# Altium footprint library TerminalBlock_Degson.PcbLib: 21 footprints (part 2 of 2)
Each footprint in its own frame and in the unit in brackets; x right, y up, seen from the top. Pads: shape width x height; smd on the part's side, far side on the other; paste and mask are expansions set on the pad; w line width, h text height; cw(c..) or ccw(c..) is an arc to the next point about the centre after c.
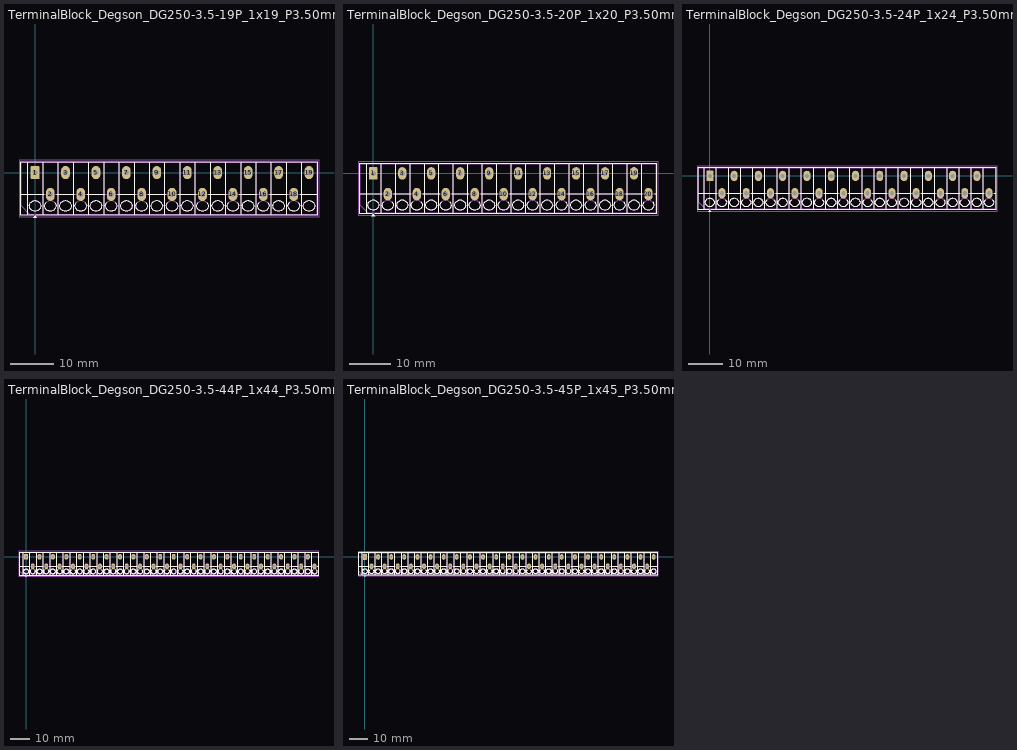
[diagram p1: the footprints below, top view; thin cyan lines are the x and y axes]

## TerminalBlock_Degson_DG250-3.5-19P_1x19_P3.50mm_45Degree [mm]
pads (19):
  rrect12% 2x3 hole 1.2: 1(0,0)
  rrect100% 2x3 hole 1.2: 2(3.5,-5) 3(7,0) 4(10.5,-5) 5(14,0) 6(17.5,-5) 7(21,0) 8(24.5,-5) 9(28,0) 10(31.5,-5) 11(35,0) 12(38.5,-5) 13(42,0) 14(45.5,-5) 15(49,0) 16(52.5,-5) 17(56,0) 18(59.5,-5) 19(63,0)
F.SilkS:
  region: 0.44,-10.38 -0.44,-10.38 0,-9.77
  lines w0.254: -3.32,-4.95 2.02,-4.95 ; -1.75,-9.77 -1.75,2.47 ; -0.3,-9.77 -3.32,-9.77 -3.32,2.47 64.92,2.47 64.92,-9.77 0.3,-9.77 ; 1.75,-9.77 1.75,2.47 ; 2.405,-6.98 ccw(c3.496,-7.987) 2.05,-7.65 ccw(c3.5,-7.311) 4.95,-7.65 ccw(c3.504,-7.987) 4.595,-6.98 ; 4.98,-4.95 9.02,-4.95 ; 5.25,-9.77 5.25,2.47 ; 8.75,-9.77 8.75,2.47 ; 9.405,-6.98 ccw(c10.496,-7.987) 9.05,-7.65 ccw(c10.5,-7.311) 11.95,-7.65 ccw(c10.504,-7.987) 11.595,-6.98 ; 11.98,-4.95 16.02,-4.95 ; 12.25,-9.77 12.25,2.47 ; 15.75,-9.77 15.75,2.47 ; 16.405,-6.98 ccw(c17.496,-7.987) 16.05,-7.65 ccw(c17.5,-7.311) 18.95,-7.65 ccw(c17.504,-7.987) 18.595,-6.98 ; 18.98,-4.95 23.02,-4.95 ; 19.25,-9.77 19.25,2.47 ; 22.75,-9.77 22.75,2.47 ; 23.405,-6.98 ccw(c24.496,-7.987) 23.05,-7.65 ccw(c24.5,-7.311) 25.95,-7.65 ccw(c24.504,-7.987) 25.595,-6.98 ; 25.98,-4.95 30.02,-4.95 ; 26.25,-9.77 26.25,2.47 ; 29.75,-9.77 29.75,2.47 ; 30.405,-6.98 ccw(c31.496,-7.987) 30.05,-7.65 ccw(c31.5,-7.311) 32.95,-7.65 ccw(c31.504,-7.987) 32.595,-6.98 ; 32.98,-4.95 37.02,-4.95 ; 33.25,-9.77 33.25,2.47 ; 36.75,-9.77 36.75,2.47 ; 37.405,-6.98 ccw(c38.496,-7.987) 37.05,-7.65 ccw(c38.5,-7.311) 39.95,-7.65 ccw(c38.504,-7.987) 39.595,-6.98 ; 39.98,-4.95 44.02,-4.95 ; 40.25,-9.77 40.25,2.47 ; 43.75,-9.77 43.75,2.47 ; 44.405,-6.98 ccw(c45.496,-7.987) 44.05,-7.65 ccw(c45.5,-7.311) 46.95,-7.65 ccw(c45.504,-7.987) 46.595,-6.98 ; 46.98,-4.95 51.02,-4.95 ; 47.25,-9.77 47.25,2.47 ; 50.75,-9.77 50.75,2.47 ; 51.405,-6.98 ccw(c52.496,-7.987) 51.05,-7.65 ccw(c52.5,-7.311) 53.95,-7.65 ccw(c52.504,-7.987) 53.595,-6.98 ; 53.98,-4.95 58.02,-4.95 ; 54.25,-9.77 54.25,2.47 ; 57.75,-9.77 57.75,2.47 ; 58.405,-6.98 ccw(c59.496,-7.987) 58.05,-7.65 ccw(c59.5,-7.311) 60.95,-7.65 ccw(c59.504,-7.987) 60.595,-6.98 ; 60.98,-4.95 64.92,-4.95 ; 61.25,-9.77 61.25,2.47 ; -1.45,-7.65 cw(c0,-7.989) 1.45,-7.65 cw(c0,-7.311) -1.45,-7.65 ; 5.55,-7.65 cw(c7,-7.989) 8.45,-7.65 cw(c7,-7.311) 5.55,-7.65 ; 12.55,-7.65 cw(c14,-7.989) 15.45,-7.65 cw(c14,-7.311) 12.55,-7.65 ; 19.55,-7.65 cw(c21,-7.989) 22.45,-7.65 cw(c21,-7.311) 19.55,-7.65 ; 26.55,-7.65 cw(c28,-7.989) 29.45,-7.65 cw(c28,-7.311) 26.55,-7.65 ; 33.55,-7.65 cw(c35,-7.989) 36.45,-7.65 cw(c35,-7.311) 33.55,-7.65 ; 40.55,-7.65 cw(c42,-7.989) 43.45,-7.65 cw(c42,-7.311) 40.55,-7.65 ; 47.55,-7.65 cw(c49,-7.989) 50.45,-7.65 cw(c49,-7.311) 47.55,-7.65 ; 54.55,-7.65 cw(c56,-7.989) 57.45,-7.65 cw(c56,-7.311) 54.55,-7.65 ; 61.55,-7.65 cw(c63,-7.989) 64.45,-7.65 cw(c63,-7.311) 61.55,-7.65
F.Fab:
  lines w0.254: -3.2,-4.95 64.8,-4.95 ; -1.75,-9.65 -1.75,2.35 ; 1.75,-9.65 1.75,2.35 ; 5.25,-9.65 5.25,2.35 ; 8.75,-9.65 8.75,2.35 ; 12.25,-9.65 12.25,2.35 ; 15.75,-9.65 15.75,2.35 ; 19.25,-9.65 19.25,2.35 ; 22.75,-9.65 22.75,2.35 ; 26.25,-9.65 26.25,2.35 ; 29.75,-9.65 29.75,2.35 ; 33.25,-9.65 33.25,2.35 ; 36.75,-9.65 36.75,2.35 ; 40.25,-9.65 40.25,2.35 ; 43.75,-9.65 43.75,2.35 ; 47.25,-9.65 47.25,2.35 ; 50.75,-9.65 50.75,2.35 ; 54.25,-9.65 54.25,2.35 ; 57.75,-9.65 57.75,2.35 ; 61.25,-9.65 61.25,2.35 ; -3.2,-7.65 -3.2,2.35 64.8,2.35 64.8,-9.65 -1.2,-9.65 -3.2,-7.65 ; -1.45,-7.65 cw(c0,-7.989) 1.45,-7.65 cw(c0,-7.311) -1.45,-7.65 ; 2.05,-7.65 cw(c3.5,-7.989) 4.95,-7.65 cw(c3.5,-7.311) 2.05,-7.65 ; 5.55,-7.65 cw(c7,-7.989) 8.45,-7.65 cw(c7,-7.311) 5.55,-7.65 ; 9.05,-7.65 cw(c10.5,-7.989) 11.95,-7.65 cw(c10.5,-7.311) 9.05,-7.65 ; 12.55,-7.65 cw(c14,-7.989) 15.45,-7.65 cw(c14,-7.311) 12.55,-7.65 ; 16.05,-7.65 cw(c17.5,-7.989) 18.95,-7.65 cw(c17.5,-7.311) 16.05,-7.65 ; 19.55,-7.65 cw(c21,-7.989) 22.45,-7.65 cw(c21,-7.311) 19.55,-7.65 ; 23.05,-7.65 cw(c24.5,-7.989) 25.95,-7.65 cw(c24.5,-7.311) 23.05,-7.65 ; 26.55,-7.65 cw(c28,-7.989) 29.45,-7.65 cw(c28,-7.311) 26.55,-7.65 ; 30.05,-7.65 cw(c31.5,-7.989) 32.95,-7.65 cw(c31.5,-7.311) 30.05,-7.65 ; 33.55,-7.65 cw(c35,-7.989) 36.45,-7.65 cw(c35,-7.311) 33.55,-7.65 ; 37.05,-7.65 cw(c38.5,-7.989) 39.95,-7.65 cw(c38.5,-7.311) 37.05,-7.65 ; 40.55,-7.65 cw(c42,-7.989) 43.45,-7.65 cw(c42,-7.311) 40.55,-7.65 ; 44.05,-7.65 cw(c45.5,-7.989) 46.95,-7.65 cw(c45.5,-7.311) 44.05,-7.65 ; 47.55,-7.65 cw(c49,-7.989) 50.45,-7.65 cw(c49,-7.311) 47.55,-7.65 ; 51.05,-7.65 cw(c52.5,-7.989) 53.95,-7.65 cw(c52.5,-7.311) 51.05,-7.65 ; 54.55,-7.65 cw(c56,-7.989) 57.45,-7.65 cw(c56,-7.311) 54.55,-7.65 ; 58.05,-7.65 cw(c59.5,-7.989) 60.95,-7.65 cw(c59.5,-7.311) 58.05,-7.65 ; 61.55,-7.65 cw(c63,-7.989) 64.45,-7.65 cw(c63,-7.311) 61.55,-7.65
  text "'.Designator'" at 26.753,-3.49 h1
F.CrtYd:
  lines w0.254: -3.7,-10.15 -3.7,2.85 65.3,2.85 65.3,-10.15 -3.7,-10.15

## TerminalBlock_Degson_DG250-3.5-20P_1x20_P3.50mm_45Degree [mm]
pads (20):
  rrect12% 2x3 hole 1.2: 1(0,0)
  rrect100% 2x3 hole 1.2: 2(3.5,-5) 3(7,0) 4(10.5,-5) 5(14,0) 6(17.5,-5) 7(21,0) 8(24.5,-5) 9(28,0) 10(31.5,-5) 11(35,0) 12(38.5,-5) 13(42,0) 14(45.5,-5) 15(49,0) 16(52.5,-5) 17(56,0) 18(59.5,-5) 19(63,0) 20(66.5,-5)
F.SilkS:
  region: 0.44,-10.38 -0.44,-10.38 0,-9.77
  lines w0.254: -3.32,-4.95 2.02,-4.95 ; -1.75,-9.77 -1.75,2.47 ; -0.3,-9.77 -3.32,-9.77 -3.32,2.47 68.42,2.47 68.42,-9.77 0.3,-9.77 ; 1.75,-9.77 1.75,2.47 ; 2.405,-6.98 ccw(c3.496,-7.987) 2.05,-7.65 ccw(c3.5,-7.311) 4.95,-7.65 ccw(c3.504,-7.987) 4.595,-6.98 ; 4.98,-4.95 9.02,-4.95 ; 5.25,-9.77 5.25,2.47 ; 8.75,-9.77 8.75,2.47 ; 9.405,-6.98 ccw(c10.496,-7.987) 9.05,-7.65 ccw(c10.5,-7.311) 11.95,-7.65 ccw(c10.504,-7.987) 11.595,-6.98 ; 11.98,-4.95 16.02,-4.95 ; 12.25,-9.77 12.25,2.47 ; 15.75,-9.77 15.75,2.47 ; 16.405,-6.98 ccw(c17.496,-7.987) 16.05,-7.65 ccw(c17.5,-7.311) 18.95,-7.65 ccw(c17.504,-7.987) 18.595,-6.98 ; 18.98,-4.95 23.02,-4.95 ; 19.25,-9.77 19.25,2.47 ; 22.75,-9.77 22.75,2.47 ; 23.405,-6.98 ccw(c24.496,-7.987) 23.05,-7.65 ccw(c24.5,-7.311) 25.95,-7.65 ccw(c24.504,-7.987) 25.595,-6.98 ; 25.98,-4.95 30.02,-4.95 ; 26.25,-9.77 26.25,2.47 ; 29.75,-9.77 29.75,2.47 ; 30.405,-6.98 ccw(c31.496,-7.987) 30.05,-7.65 ccw(c31.5,-7.311) 32.95,-7.65 ccw(c31.504,-7.987) 32.595,-6.98 ; 32.98,-4.95 37.02,-4.95 ; 33.25,-9.77 33.25,2.47 ; 36.75,-9.77 36.75,2.47 ; 37.405,-6.98 ccw(c38.496,-7.987) 37.05,-7.65 ccw(c38.5,-7.311) 39.95,-7.65 ccw(c38.504,-7.987) 39.595,-6.98 ; 39.98,-4.95 44.02,-4.95 ; 40.25,-9.77 40.25,2.47 ; 43.75,-9.77 43.75,2.47 ; 44.405,-6.98 ccw(c45.496,-7.987) 44.05,-7.65 ccw(c45.5,-7.311) 46.95,-7.65 ccw(c45.504,-7.987) 46.595,-6.98 ; 46.98,-4.95 51.02,-4.95 ; 47.25,-9.77 47.25,2.47 ; 50.75,-9.77 50.75,2.47 ; 51.405,-6.98 ccw(c52.496,-7.987) 51.05,-7.65 ccw(c52.5,-7.311) 53.95,-7.65 ccw(c52.504,-7.987) 53.595,-6.98 ; 53.98,-4.95 58.02,-4.95 ; 54.25,-9.77 54.25,2.47 ; 57.75,-9.77 57.75,2.47 ; 58.405,-6.98 ccw(c59.496,-7.987) 58.05,-7.65 ccw(c59.5,-7.311) 60.95,-7.65 ccw(c59.504,-7.987) 60.595,-6.98 ; 60.98,-4.95 65.02,-4.95 ; 61.25,-9.77 61.25,2.47 ; 64.75,-9.77 64.75,2.47 ; 65.405,-6.98 ccw(c66.496,-7.987) 65.05,-7.65 ccw(c66.5,-7.311) 67.95,-7.65 ccw(c66.504,-7.987) 67.595,-6.98 ; 67.98,-4.95 68.42,-4.95 ; -1.45,-7.65 cw(c0,-7.989) 1.45,-7.65 cw(c0,-7.311) -1.45,-7.65 ; 5.55,-7.65 cw(c7,-7.989) 8.45,-7.65 cw(c7,-7.311) 5.55,-7.65 ; 12.55,-7.65 cw(c14,-7.989) 15.45,-7.65 cw(c14,-7.311) 12.55,-7.65 ; 19.55,-7.65 cw(c21,-7.989) 22.45,-7.65 cw(c21,-7.311) 19.55,-7.65 ; 26.55,-7.65 cw(c28,-7.989) 29.45,-7.65 cw(c28,-7.311) 26.55,-7.65 ; 33.55,-7.65 cw(c35,-7.989) 36.45,-7.65 cw(c35,-7.311) 33.55,-7.65 ; 40.55,-7.65 cw(c42,-7.989) 43.45,-7.65 cw(c42,-7.311) 40.55,-7.65 ; 47.55,-7.65 cw(c49,-7.989) 50.45,-7.65 cw(c49,-7.311) 47.55,-7.65 ; 54.55,-7.65 cw(c56,-7.989) 57.45,-7.65 cw(c56,-7.311) 54.55,-7.65 ; 61.55,-7.65 cw(c63,-7.989) 64.45,-7.65 cw(c63,-7.311) 61.55,-7.65
F.Fab:
  lines w0.254: -3.2,-4.95 68.3,-4.95 ; -1.75,-9.65 -1.75,2.35 ; 1.75,-9.65 1.75,2.35 ; 5.25,-9.65 5.25,2.35 ; 8.75,-9.65 8.75,2.35 ; 12.25,-9.65 12.25,2.35 ; 15.75,-9.65 15.75,2.35 ; 19.25,-9.65 19.25,2.35 ; 22.75,-9.65 22.75,2.35 ; 26.25,-9.65 26.25,2.35 ; 29.75,-9.65 29.75,2.35 ; 33.25,-9.65 33.25,2.35 ; 36.75,-9.65 36.75,2.35 ; 40.25,-9.65 40.25,2.35 ; 43.75,-9.65 43.75,2.35 ; 47.25,-9.65 47.25,2.35 ; 50.75,-9.65 50.75,2.35 ; 54.25,-9.65 54.25,2.35 ; 57.75,-9.65 57.75,2.35 ; 61.25,-9.65 61.25,2.35 ; 64.75,-9.65 64.75,2.35 ; -3.2,-7.65 -3.2,2.35 68.3,2.35 68.3,-9.65 -1.2,-9.65 -3.2,-7.65 ; -1.45,-7.65 cw(c0,-7.989) 1.45,-7.65 cw(c0,-7.311) -1.45,-7.65 ; 2.05,-7.65 cw(c3.5,-7.989) 4.95,-7.65 cw(c3.5,-7.311) 2.05,-7.65 ; 5.55,-7.65 cw(c7,-7.989) 8.45,-7.65 cw(c7,-7.311) 5.55,-7.65 ; 9.05,-7.65 cw(c10.5,-7.989) 11.95,-7.65 cw(c10.5,-7.311) 9.05,-7.65 ; 12.55,-7.65 cw(c14,-7.989) 15.45,-7.65 cw(c14,-7.311) 12.55,-7.65 ; 16.05,-7.65 cw(c17.5,-7.989) 18.95,-7.65 cw(c17.5,-7.311) 16.05,-7.65 ; 19.55,-7.65 cw(c21,-7.989) 22.45,-7.65 cw(c21,-7.311) 19.55,-7.65 ; 23.05,-7.65 cw(c24.5,-7.989) 25.95,-7.65 cw(c24.5,-7.311) 23.05,-7.65 ; 26.55,-7.65 cw(c28,-7.989) 29.45,-7.65 cw(c28,-7.311) 26.55,-7.65 ; 30.05,-7.65 cw(c31.5,-7.989) 32.95,-7.65 cw(c31.5,-7.311) 30.05,-7.65 ; 33.55,-7.65 cw(c35,-7.989) 36.45,-7.65 cw(c35,-7.311) 33.55,-7.65 ; 37.05,-7.65 cw(c38.5,-7.989) 39.95,-7.65 cw(c38.5,-7.311) 37.05,-7.65 ; 40.55,-7.65 cw(c42,-7.989) 43.45,-7.65 cw(c42,-7.311) 40.55,-7.65 ; 44.05,-7.65 cw(c45.5,-7.989) 46.95,-7.65 cw(c45.5,-7.311) 44.05,-7.65 ; 47.55,-7.65 cw(c49,-7.989) 50.45,-7.65 cw(c49,-7.311) 47.55,-7.65 ; 51.05,-7.65 cw(c52.5,-7.989) 53.95,-7.65 cw(c52.5,-7.311) 51.05,-7.65 ; 54.55,-7.65 cw(c56,-7.989) 57.45,-7.65 cw(c56,-7.311) 54.55,-7.65 ; 58.05,-7.65 cw(c59.5,-7.989) 60.95,-7.65 cw(c59.5,-7.311) 58.05,-7.65 ; 61.55,-7.65 cw(c63,-7.989) 64.45,-7.65 cw(c63,-7.311) 61.55,-7.65 ; 65.05,-7.65 cw(c66.5,-7.989) 67.95,-7.65 cw(c66.5,-7.311) 65.05,-7.65
  text "'.Designator'" at 28.503,-3.49 h1
F.CrtYd:
  lines w0.254: -3.7,-10.15 -3.7,2.85 68.8,2.85 68.8,-10.15 -3.7,-10.15

## TerminalBlock_Degson_DG250-3.5-24P_1x24_P3.50mm_45Degree [mm]
pads (24):
  rrect12% 2x3 hole 1.2: 1(0,0)
  rrect100% 2x3 hole 1.2: 2(3.5,-5) 3(7,0) 4(10.5,-5) 5(14,0) 6(17.5,-5) 7(21,0) 8(24.5,-5) 9(28,0) 10(31.5,-5) 11(35,0) 12(38.5,-5) 13(42,0) 14(45.5,-5) 15(49,0) 16(52.5,-5) 17(56,0) 18(59.5,-5) 19(63,0) 20(66.5,-5) 21(70,0) 22(73.5,-5) 23(77,0) 24(80.5,-5)
F.SilkS:
  region: 0.44,-10.38 -0.44,-10.38 0,-9.77
  lines w0.254: -3.32,-4.95 2.02,-4.95 ; -1.75,-9.77 -1.75,2.47 ; -0.3,-9.77 -3.32,-9.77 -3.32,2.47 82.42,2.47 82.42,-9.77 0.3,-9.77 ; 1.75,-9.77 1.75,2.47 ; 2.405,-6.98 ccw(c3.496,-7.987) 2.05,-7.65 ccw(c3.5,-7.311) 4.95,-7.65 ccw(c3.504,-7.987) 4.595,-6.98 ; 4.98,-4.95 9.02,-4.95 ; 5.25,-9.77 5.25,2.47 ; 8.75,-9.77 8.75,2.47 ; 9.405,-6.98 ccw(c10.496,-7.987) 9.05,-7.65 ccw(c10.5,-7.311) 11.95,-7.65 ccw(c10.504,-7.987) 11.595,-6.98 ; 11.98,-4.95 16.02,-4.95 ; 12.25,-9.77 12.25,2.47 ; 15.75,-9.77 15.75,2.47 ; 16.405,-6.98 ccw(c17.496,-7.987) 16.05,-7.65 ccw(c17.5,-7.311) 18.95,-7.65 ccw(c17.504,-7.987) 18.595,-6.98 ; 18.98,-4.95 23.02,-4.95 ; 19.25,-9.77 19.25,2.47 ; 22.75,-9.77 22.75,2.47 ; 23.405,-6.98 ccw(c24.496,-7.987) 23.05,-7.65 ccw(c24.5,-7.311) 25.95,-7.65 ccw(c24.504,-7.987) 25.595,-6.98 ; 25.98,-4.95 30.02,-4.95 ; 26.25,-9.77 26.25,2.47 ; 29.75,-9.77 29.75,2.47 ; 30.405,-6.98 ccw(c31.496,-7.987) 30.05,-7.65 ccw(c31.5,-7.311) 32.95,-7.65 ccw(c31.504,-7.987) 32.595,-6.98 ; 32.98,-4.95 37.02,-4.95 ; 33.25,-9.77 33.25,2.47 ; 36.75,-9.77 36.75,2.47 ; 37.405,-6.98 ccw(c38.496,-7.987) 37.05,-7.65 ccw(c38.5,-7.311) 39.95,-7.65 ccw(c38.504,-7.987) 39.595,-6.98 ; 39.98,-4.95 44.02,-4.95 ; 40.25,-9.77 40.25,2.47 ; 43.75,-9.77 43.75,2.47 ; 44.405,-6.98 ccw(c45.496,-7.987) 44.05,-7.65 ccw(c45.5,-7.311) 46.95,-7.65 ccw(c45.504,-7.987) 46.595,-6.98 ; 46.98,-4.95 51.02,-4.95 ; 47.25,-9.77 47.25,2.47 ; 50.75,-9.77 50.75,2.47 ; 51.405,-6.98 ccw(c52.496,-7.987) 51.05,-7.65 ccw(c52.5,-7.311) 53.95,-7.65 ccw(c52.504,-7.987) 53.595,-6.98 ; 53.98,-4.95 58.02,-4.95 ; 54.25,-9.77 54.25,2.47 ; 57.75,-9.77 57.75,2.47 ; 58.405,-6.98 ccw(c59.496,-7.987) 58.05,-7.65 ccw(c59.5,-7.311) 60.95,-7.65 ccw(c59.504,-7.987) 60.595,-6.98 ; 60.98,-4.95 65.02,-4.95 ; 61.25,-9.77 61.25,2.47 ; 64.75,-9.77 64.75,2.47 ; 65.405,-6.98 ccw(c66.496,-7.987) 65.05,-7.65 ccw(c66.5,-7.311) 67.95,-7.65 ccw(c66.504,-7.987) 67.595,-6.98 ; 67.98,-4.95 72.02,-4.95 ; 68.25,-9.77 68.25,2.47 ; 71.75,-9.77 71.75,2.47 ; 72.405,-6.98 ccw(c73.496,-7.987) 72.05,-7.65 ccw(c73.5,-7.311) 74.95,-7.65 ccw(c73.504,-7.987) 74.595,-6.98 ; 74.98,-4.95 79.02,-4.95 ; 75.25,-9.77 75.25,2.47 ; 78.75,-9.77 78.75,2.47 ; 79.405,-6.98 ccw(c80.496,-7.987) 79.05,-7.65 ccw(c80.5,-7.311) 81.95,-7.65 ccw(c80.504,-7.987) 81.595,-6.98 ; 81.98,-4.95 82.42,-4.95 ; -1.45,-7.65 cw(c0,-7.989) 1.45,-7.65 cw(c0,-7.311) -1.45,-7.65 ; 5.55,-7.65 cw(c7,-7.989) 8.45,-7.65 cw(c7,-7.311) 5.55,-7.65 ; 12.55,-7.65 cw(c14,-7.989) 15.45,-7.65 cw(c14,-7.311) 12.55,-7.65 ; 19.55,-7.65 cw(c21,-7.989) 22.45,-7.65 cw(c21,-7.311) 19.55,-7.65 ; 26.55,-7.65 cw(c28,-7.989) 29.45,-7.65 cw(c28,-7.311) 26.55,-7.65 ; 33.55,-7.65 cw(c35,-7.989) 36.45,-7.65 cw(c35,-7.311) 33.55,-7.65 ; 40.55,-7.65 cw(c42,-7.989) 43.45,-7.65 cw(c42,-7.311) 40.55,-7.65 ; 47.55,-7.65 cw(c49,-7.989) 50.45,-7.65 cw(c49,-7.311) 47.55,-7.65 ; 54.55,-7.65 cw(c56,-7.989) 57.45,-7.65 cw(c56,-7.311) 54.55,-7.65 ; 61.55,-7.65 cw(c63,-7.989) 64.45,-7.65 cw(c63,-7.311) 61.55,-7.65 ; 68.55,-7.65 cw(c70,-7.989) 71.45,-7.65 cw(c70,-7.311) 68.55,-7.65 ; 75.55,-7.65 cw(c77,-7.989) 78.45,-7.65 cw(c77,-7.311) 75.55,-7.65
F.Fab:
  lines w0.254: -3.2,-4.95 82.3,-4.95 ; -1.75,-9.65 -1.75,2.35 ; 1.75,-9.65 1.75,2.35 ; 5.25,-9.65 5.25,2.35 ; 8.75,-9.65 8.75,2.35 ; 12.25,-9.65 12.25,2.35 ; 15.75,-9.65 15.75,2.35 ; 19.25,-9.65 19.25,2.35 ; 22.75,-9.65 22.75,2.35 ; 26.25,-9.65 26.25,2.35 ; 29.75,-9.65 29.75,2.35 ; 33.25,-9.65 33.25,2.35 ; 36.75,-9.65 36.75,2.35 ; 40.25,-9.65 40.25,2.35 ; 43.75,-9.65 43.75,2.35 ; 47.25,-9.65 47.25,2.35 ; 50.75,-9.65 50.75,2.35 ; 54.25,-9.65 54.25,2.35 ; 57.75,-9.65 57.75,2.35 ; 61.25,-9.65 61.25,2.35 ; 64.75,-9.65 64.75,2.35 ; 68.25,-9.65 68.25,2.35 ; 71.75,-9.65 71.75,2.35 ; 75.25,-9.65 75.25,2.35 ; 78.75,-9.65 78.75,2.35 ; -3.2,-7.65 -3.2,2.35 82.3,2.35 82.3,-9.65 -1.2,-9.65 -3.2,-7.65 ; -1.45,-7.65 cw(c0,-7.989) 1.45,-7.65 cw(c0,-7.311) -1.45,-7.65 ; 2.05,-7.65 cw(c3.5,-7.989) 4.95,-7.65 cw(c3.5,-7.311) 2.05,-7.65 ; 5.55,-7.65 cw(c7,-7.989) 8.45,-7.65 cw(c7,-7.311) 5.55,-7.65 ; 9.05,-7.65 cw(c10.5,-7.989) 11.95,-7.65 cw(c10.5,-7.311) 9.05,-7.65 ; 12.55,-7.65 cw(c14,-7.989) 15.45,-7.65 cw(c14,-7.311) 12.55,-7.65 ; 16.05,-7.65 cw(c17.5,-7.989) 18.95,-7.65 cw(c17.5,-7.311) 16.05,-7.65 ; 19.55,-7.65 cw(c21,-7.989) 22.45,-7.65 cw(c21,-7.311) 19.55,-7.65 ; 23.05,-7.65 cw(c24.5,-7.989) 25.95,-7.65 cw(c24.5,-7.311) 23.05,-7.65 ; 26.55,-7.65 cw(c28,-7.989) 29.45,-7.65 cw(c28,-7.311) 26.55,-7.65 ; 30.05,-7.65 cw(c31.5,-7.989) 32.95,-7.65 cw(c31.5,-7.311) 30.05,-7.65 ; 33.55,-7.65 cw(c35,-7.989) 36.45,-7.65 cw(c35,-7.311) 33.55,-7.65 ; 37.05,-7.65 cw(c38.5,-7.989) 39.95,-7.65 cw(c38.5,-7.311) 37.05,-7.65 ; 40.55,-7.65 cw(c42,-7.989) 43.45,-7.65 cw(c42,-7.311) 40.55,-7.65 ; 44.05,-7.65 cw(c45.5,-7.989) 46.95,-7.65 cw(c45.5,-7.311) 44.05,-7.65 ; 47.55,-7.65 cw(c49,-7.989) 50.45,-7.65 cw(c49,-7.311) 47.55,-7.65 ; 51.05,-7.65 cw(c52.5,-7.989) 53.95,-7.65 cw(c52.5,-7.311) 51.05,-7.65 ; 54.55,-7.65 cw(c56,-7.989) 57.45,-7.65 cw(c56,-7.311) 54.55,-7.65 ; 58.05,-7.65 cw(c59.5,-7.989) 60.95,-7.65 cw(c59.5,-7.311) 58.05,-7.65 ; 61.55,-7.65 cw(c63,-7.989) 64.45,-7.65 cw(c63,-7.311) 61.55,-7.65 ; 65.05,-7.65 cw(c66.5,-7.989) 67.95,-7.65 cw(c66.5,-7.311) 65.05,-7.65 ; 68.55,-7.65 cw(c70,-7.989) 71.45,-7.65 cw(c70,-7.311) 68.55,-7.65 ; 72.05,-7.65 cw(c73.5,-7.989) 74.95,-7.65 cw(c73.5,-7.311) 72.05,-7.65 ; 75.55,-7.65 cw(c77,-7.989) 78.45,-7.65 cw(c77,-7.311) 75.55,-7.65 ; 79.05,-7.65 cw(c80.5,-7.989) 81.95,-7.65 cw(c80.5,-7.311) 79.05,-7.65
  text "'.Designator'" at 35.503,-3.49 h1
F.CrtYd:
  lines w0.254: -3.7,-10.15 -3.7,2.85 82.8,2.85 82.8,-10.15 -3.7,-10.15

## TerminalBlock_Degson_DG250-3.5-44P_1x44_P3.50mm_45Degree [mm]
pads (44):
  rrect12% 2x3 hole 1.2: 1(0,0)
  rrect100% 2x3 hole 1.2: 2(3.5,-5) 3(7,0) 4(10.5,-5) 5(14,0) 6(17.5,-5) 7(21,0) 8(24.5,-5) 9(28,0) 10(31.5,-5) 11(35,0) 12(38.5,-5) 13(42,0) 14(45.5,-5) 15(49,0) 16(52.5,-5) 17(56,0) 18(59.5,-5) 19(63,0) 20(66.5,-5) 21(70,0) 22(73.5,-5) 23(77,0) 24(80.5,-5) 25(84,0) 26(87.5,-5) 27(91,0) 28(94.5,-5) 29(98,0) 30(101.5,-5) 31(105,0) 32(108.5,-5) 33(112,0) 34(115.5,-5) 35(119,0) 36(122.5,-5) 37(126,0) 38(129.5,-5) 39(133,0) 40(136.5,-5) 41(140,0) 42(143.5,-5) 43(147,0) 44(150.5,-5)
F.SilkS:
  drawing of 183 lines, arcs and shapes, not listed
F.Fab:
  lines w0.254: -3.2,-4.95 152.3,-4.95 ; -1.75,-9.65 -1.75,2.35 ; 1.75,-9.65 1.75,2.35 ; 5.25,-9.65 5.25,2.35 ; 8.75,-9.65 8.75,2.35 ; 12.25,-9.65 12.25,2.35 ; 15.75,-9.65 15.75,2.35 ; 19.25,-9.65 19.25,2.35 ; 22.75,-9.65 22.75,2.35 ; 26.25,-9.65 26.25,2.35 ; 29.75,-9.65 29.75,2.35 ; 33.25,-9.65 33.25,2.35 ; 36.75,-9.65 36.75,2.35 ; 40.25,-9.65 40.25,2.35 ; 43.75,-9.65 43.75,2.35 ; 47.25,-9.65 47.25,2.35 ; 50.75,-9.65 50.75,2.35 ; 54.25,-9.65 54.25,2.35 ; 57.75,-9.65 57.75,2.35 ; 61.25,-9.65 61.25,2.35 ; 64.75,-9.65 64.75,2.35 ; 68.25,-9.65 68.25,2.35 ; 71.75,-9.65 71.75,2.35 ; 75.25,-9.65 75.25,2.35 ; 78.75,-9.65 78.75,2.35 ; 82.25,-9.65 82.25,2.35 ; 85.75,-9.65 85.75,2.35 ; 89.25,-9.65 89.25,2.35 ; 92.75,-9.65 92.75,2.35 ; 96.25,-9.65 96.25,2.35 ; 99.75,-9.65 99.75,2.35 ; 103.25,-9.65 103.25,2.35 ; 106.75,-9.65 106.75,2.35 ; 110.25,-9.65 110.25,2.35 ; 113.75,-9.65 113.75,2.35 ; 117.25,-9.65 117.25,2.35 ; 120.75,-9.65 120.75,2.35 ; 124.25,-9.65 124.25,2.35 ; 127.75,-9.65 127.75,2.35 ; 131.25,-9.65 131.25,2.35 ; 134.75,-9.65 134.75,2.35 ; 138.25,-9.65 138.25,2.35 ; 141.75,-9.65 141.75,2.35 ; 145.25,-9.65 145.25,2.35 ; 148.75,-9.65 148.75,2.35 ; -3.2,-7.65 -3.2,2.35 152.3,2.35 152.3,-9.65 -1.2,-9.65 -3.2,-7.65 ; -1.45,-7.65 cw(c0,-7.989) 1.45,-7.65 cw(c0,-7.311) -1.45,-7.65 ; 2.05,-7.65 cw(c3.5,-7.989) 4.95,-7.65 cw(c3.5,-7.311) 2.05,-7.65 ; 5.55,-7.65 cw(c7,-7.989) 8.45,-7.65 cw(c7,-7.311) 5.55,-7.65 ; 9.05,-7.65 cw(c10.5,-7.989) 11.95,-7.65 cw(c10.5,-7.311) 9.05,-7.65 ; 12.55,-7.65 cw(c14,-7.989) 15.45,-7.65 cw(c14,-7.311) 12.55,-7.65 ; 16.05,-7.65 cw(c17.5,-7.989) 18.95,-7.65 cw(c17.5,-7.311) 16.05,-7.65 ; 19.55,-7.65 cw(c21,-7.989) 22.45,-7.65 cw(c21,-7.311) 19.55,-7.65 ; 23.05,-7.65 cw(c24.5,-7.989) 25.95,-7.65 cw(c24.5,-7.311) 23.05,-7.65 ; 26.55,-7.65 cw(c28,-7.989) 29.45,-7.65 cw(c28,-7.311) 26.55,-7.65 ; 30.05,-7.65 cw(c31.5,-7.989) 32.95,-7.65 cw(c31.5,-7.311) 30.05,-7.65 ; 33.55,-7.65 cw(c35,-7.989) 36.45,-7.65 cw(c35,-7.311) 33.55,-7.65 ; 37.05,-7.65 cw(c38.5,-7.989) 39.95,-7.65 cw(c38.5,-7.311) 37.05,-7.65 ; 40.55,-7.65 cw(c42,-7.989) 43.45,-7.65 cw(c42,-7.311) 40.55,-7.65 ; 44.05,-7.65 cw(c45.5,-7.989) 46.95,-7.65 cw(c45.5,-7.311) 44.05,-7.65 ; 47.55,-7.65 cw(c49,-7.989) 50.45,-7.65 cw(c49,-7.311) 47.55,-7.65 ; 51.05,-7.65 cw(c52.5,-7.989) 53.95,-7.65 cw(c52.5,-7.311) 51.05,-7.65 ; 54.55,-7.65 cw(c56,-7.989) 57.45,-7.65 cw(c56,-7.311) 54.55,-7.65 ; 58.05,-7.65 cw(c59.5,-7.989) 60.95,-7.65 cw(c59.5,-7.311) 58.05,-7.65 ; 61.55,-7.65 cw(c63,-7.989) 64.45,-7.65 cw(c63,-7.311) 61.55,-7.65 ; 65.05,-7.65 cw(c66.5,-7.989) 67.95,-7.65 cw(c66.5,-7.311) 65.05,-7.65 ; 68.55,-7.65 cw(c70,-7.989) 71.45,-7.65 cw(c70,-7.311) 68.55,-7.65 ; 72.05,-7.65 cw(c73.5,-7.989) 74.95,-7.65 cw(c73.5,-7.311) 72.05,-7.65 ; 75.55,-7.65 cw(c77,-7.989) 78.45,-7.65 cw(c77,-7.311) 75.55,-7.65 ; 79.05,-7.65 cw(c80.5,-7.989) 81.95,-7.65 cw(c80.5,-7.311) 79.05,-7.65 ; 82.55,-7.65 cw(c84,-7.989) 85.45,-7.65 cw(c84,-7.311) 82.55,-7.65 ; 86.05,-7.65 cw(c87.5,-7.989) 88.95,-7.65 cw(c87.5,-7.311) 86.05,-7.65 ; 89.55,-7.65 cw(c91,-7.989) 92.45,-7.65 cw(c91,-7.311) 89.55,-7.65 ; 93.05,-7.65 cw(c94.5,-7.989) 95.95,-7.65 cw(c94.5,-7.311) 93.05,-7.65 ; 96.55,-7.65 cw(c98,-7.989) 99.45,-7.65 cw(c98,-7.311) 96.55,-7.65 ; 100.05,-7.65 cw(c101.5,-7.989) 102.95,-7.65 cw(c101.5,-7.311) 100.05,-7.65 ; 103.55,-7.65 cw(c105,-7.989) 106.45,-7.65 cw(c105,-7.311) 103.55,-7.65 ; 107.05,-7.65 cw(c108.5,-7.989) 109.95,-7.65 cw(c108.5,-7.311) 107.05,-7.65 ; 110.55,-7.65 cw(c112,-7.989) 113.45,-7.65 cw(c112,-7.311) 110.55,-7.65 ; 114.05,-7.65 cw(c115.5,-7.989) 116.95,-7.65 cw(c115.5,-7.311) 114.05,-7.65 ; 117.55,-7.65 cw(c119,-7.989) 120.45,-7.65 cw(c119,-7.311) 117.55,-7.65 ; 121.05,-7.65 cw(c122.5,-7.989) 123.95,-7.65 cw(c122.5,-7.311) 121.05,-7.65 ; 124.55,-7.65 cw(c126,-7.989) 127.45,-7.65 cw(c126,-7.311) 124.55,-7.65 ; 128.05,-7.65 cw(c129.5,-7.989) 130.95,-7.65 cw(c129.5,-7.311) 128.05,-7.65 ; 131.55,-7.65 cw(c133,-7.989) 134.45,-7.65 cw(c133,-7.311) 131.55,-7.65 ; 135.05,-7.65 cw(c136.5,-7.989) 137.95,-7.65 cw(c136.5,-7.311) 135.05,-7.65 ; 138.55,-7.65 cw(c140,-7.989) 141.45,-7.65 cw(c140,-7.311) 138.55,-7.65 ; 142.05,-7.65 cw(c143.5,-7.989) 144.95,-7.65 cw(c143.5,-7.311) 142.05,-7.65 ; 145.55,-7.65 cw(c147,-7.989) 148.45,-7.65 cw(c147,-7.311) 145.55,-7.65 ; 149.05,-7.65 cw(c150.5,-7.989) 151.95,-7.65 cw(c150.5,-7.311) 149.05,-7.65
  text "'.Designator'" at 70.503,-3.49 h1
F.CrtYd:
  lines w0.254: -3.7,-10.15 -3.7,2.85 152.8,2.85 152.8,-10.15 -3.7,-10.15

## TerminalBlock_Degson_DG250-3.5-45P_1x45_P3.50mm_45Degree [mm]
pads (45):
  rrect12% 2x3 hole 1.2: 1(0,0)
  rrect100% 2x3 hole 1.2: 2(3.5,-5) 3(7,0) 4(10.5,-5) 5(14,0) 6(17.5,-5) 7(21,0) 8(24.5,-5) 9(28,0) 10(31.5,-5) 11(35,0) 12(38.5,-5) 13(42,0) 14(45.5,-5) 15(49,0) 16(52.5,-5) 17(56,0) 18(59.5,-5) 19(63,0) 20(66.5,-5) 21(70,0) 22(73.5,-5) 23(77,0) 24(80.5,-5) 25(84,0) 26(87.5,-5) 27(91,0) 28(94.5,-5) 29(98,0) 30(101.5,-5) 31(105,0) 32(108.5,-5) 33(112,0) 34(115.5,-5) 35(119,0) 36(122.5,-5) 37(126,0) 38(129.5,-5) 39(133,0) 40(136.5,-5) 41(140,0) 42(143.5,-5) 43(147,0) 44(150.5,-5) 45(154,0)
F.SilkS:
  drawing of 186 lines, arcs and shapes, not listed
F.Fab:
  lines w0.254: -3.2,-4.95 155.8,-4.95 ; -1.75,-9.65 -1.75,2.35 ; 1.75,-9.65 1.75,2.35 ; 5.25,-9.65 5.25,2.35 ; 8.75,-9.65 8.75,2.35 ; 12.25,-9.65 12.25,2.35 ; 15.75,-9.65 15.75,2.35 ; 19.25,-9.65 19.25,2.35 ; 22.75,-9.65 22.75,2.35 ; 26.25,-9.65 26.25,2.35 ; 29.75,-9.65 29.75,2.35 ; 33.25,-9.65 33.25,2.35 ; 36.75,-9.65 36.75,2.35 ; 40.25,-9.65 40.25,2.35 ; 43.75,-9.65 43.75,2.35 ; 47.25,-9.65 47.25,2.35 ; 50.75,-9.65 50.75,2.35 ; 54.25,-9.65 54.25,2.35 ; 57.75,-9.65 57.75,2.35 ; 61.25,-9.65 61.25,2.35 ; 64.75,-9.65 64.75,2.35 ; 68.25,-9.65 68.25,2.35 ; 71.75,-9.65 71.75,2.35 ; 75.25,-9.65 75.25,2.35 ; 78.75,-9.65 78.75,2.35 ; 82.25,-9.65 82.25,2.35 ; 85.75,-9.65 85.75,2.35 ; 89.25,-9.65 89.25,2.35 ; 92.75,-9.65 92.75,2.35 ; 96.25,-9.65 96.25,2.35 ; 99.75,-9.65 99.75,2.35 ; 103.25,-9.65 103.25,2.35 ; 106.75,-9.65 106.75,2.35 ; 110.25,-9.65 110.25,2.35 ; 113.75,-9.65 113.75,2.35 ; 117.25,-9.65 117.25,2.35 ; 120.75,-9.65 120.75,2.35 ; 124.25,-9.65 124.25,2.35 ; 127.75,-9.65 127.75,2.35 ; 131.25,-9.65 131.25,2.35 ; 134.75,-9.65 134.75,2.35 ; 138.25,-9.65 138.25,2.35 ; 141.75,-9.65 141.75,2.35 ; 145.25,-9.65 145.25,2.35 ; 148.75,-9.65 148.75,2.35 ; 152.25,-9.65 152.25,2.35 ; -3.2,-7.65 -3.2,2.35 155.8,2.35 155.8,-9.65 -1.2,-9.65 -3.2,-7.65 ; -1.45,-7.65 cw(c0,-7.989) 1.45,-7.65 cw(c0,-7.311) -1.45,-7.65 ; 2.05,-7.65 cw(c3.5,-7.989) 4.95,-7.65 cw(c3.5,-7.311) 2.05,-7.65 ; 5.55,-7.65 cw(c7,-7.989) 8.45,-7.65 cw(c7,-7.311) 5.55,-7.65 ; 9.05,-7.65 cw(c10.5,-7.989) 11.95,-7.65 cw(c10.5,-7.311) 9.05,-7.65 ; 12.55,-7.65 cw(c14,-7.989) 15.45,-7.65 cw(c14,-7.311) 12.55,-7.65 ; 16.05,-7.65 cw(c17.5,-7.989) 18.95,-7.65 cw(c17.5,-7.311) 16.05,-7.65 ; 19.55,-7.65 cw(c21,-7.989) 22.45,-7.65 cw(c21,-7.311) 19.55,-7.65 ; 23.05,-7.65 cw(c24.5,-7.989) 25.95,-7.65 cw(c24.5,-7.311) 23.05,-7.65 ; 26.55,-7.65 cw(c28,-7.989) 29.45,-7.65 cw(c28,-7.311) 26.55,-7.65 ; 30.05,-7.65 cw(c31.5,-7.989) 32.95,-7.65 cw(c31.5,-7.311) 30.05,-7.65 ; 33.55,-7.65 cw(c35,-7.989) 36.45,-7.65 cw(c35,-7.311) 33.55,-7.65 ; 37.05,-7.65 cw(c38.5,-7.989) 39.95,-7.65 cw(c38.5,-7.311) 37.05,-7.65 ; 40.55,-7.65 cw(c42,-7.989) 43.45,-7.65 cw(c42,-7.311) 40.55,-7.65 ; 44.05,-7.65 cw(c45.5,-7.989) 46.95,-7.65 cw(c45.5,-7.311) 44.05,-7.65 ; 47.55,-7.65 cw(c49,-7.989) 50.45,-7.65 cw(c49,-7.311) 47.55,-7.65 ; 51.05,-7.65 cw(c52.5,-7.989) 53.95,-7.65 cw(c52.5,-7.311) 51.05,-7.65 ; 54.55,-7.65 cw(c56,-7.989) 57.45,-7.65 cw(c56,-7.311) 54.55,-7.65 ; 58.05,-7.65 cw(c59.5,-7.989) 60.95,-7.65 cw(c59.5,-7.311) 58.05,-7.65 ; 61.55,-7.65 cw(c63,-7.989) 64.45,-7.65 cw(c63,-7.311) 61.55,-7.65 ; 65.05,-7.65 cw(c66.5,-7.989) 67.95,-7.65 cw(c66.5,-7.311) 65.05,-7.65 ; 68.55,-7.65 cw(c70,-7.989) 71.45,-7.65 cw(c70,-7.311) 68.55,-7.65 ; 72.05,-7.65 cw(c73.5,-7.989) 74.95,-7.65 cw(c73.5,-7.311) 72.05,-7.65 ; 75.55,-7.65 cw(c77,-7.989) 78.45,-7.65 cw(c77,-7.311) 75.55,-7.65 ; 79.05,-7.65 cw(c80.5,-7.989) 81.95,-7.65 cw(c80.5,-7.311) 79.05,-7.65 ; 82.55,-7.65 cw(c84,-7.989) 85.45,-7.65 cw(c84,-7.311) 82.55,-7.65 ; 86.05,-7.65 cw(c87.5,-7.989) 88.95,-7.65 cw(c87.5,-7.311) 86.05,-7.65 ; 89.55,-7.65 cw(c91,-7.989) 92.45,-7.65 cw(c91,-7.311) 89.55,-7.65 ; 93.05,-7.65 cw(c94.5,-7.989) 95.95,-7.65 cw(c94.5,-7.311) 93.05,-7.65 ; 96.55,-7.65 cw(c98,-7.989) 99.45,-7.65 cw(c98,-7.311) 96.55,-7.65 ; 100.05,-7.65 cw(c101.5,-7.989) 102.95,-7.65 cw(c101.5,-7.311) 100.05,-7.65 ; 103.55,-7.65 cw(c105,-7.989) 106.45,-7.65 cw(c105,-7.311) 103.55,-7.65 ; 107.05,-7.65 cw(c108.5,-7.989) 109.95,-7.65 cw(c108.5,-7.311) 107.05,-7.65 ; 110.55,-7.65 cw(c112,-7.989) 113.45,-7.65 cw(c112,-7.311) 110.55,-7.65 ; 114.05,-7.65 cw(c115.5,-7.989) 116.95,-7.65 cw(c115.5,-7.311) 114.05,-7.65 ; 117.55,-7.65 cw(c119,-7.989) 120.45,-7.65 cw(c119,-7.311) 117.55,-7.65 ; 121.05,-7.65 cw(c122.5,-7.989) 123.95,-7.65 cw(c122.5,-7.311) 121.05,-7.65 ; 124.55,-7.65 cw(c126,-7.989) 127.45,-7.65 cw(c126,-7.311) 124.55,-7.65 ; 128.05,-7.65 cw(c129.5,-7.989) 130.95,-7.65 cw(c129.5,-7.311) 128.05,-7.65 ; 131.55,-7.65 cw(c133,-7.989) 134.45,-7.65 cw(c133,-7.311) 131.55,-7.65 ; 135.05,-7.65 cw(c136.5,-7.989) 137.95,-7.65 cw(c136.5,-7.311) 135.05,-7.65 ; 138.55,-7.65 cw(c140,-7.989) 141.45,-7.65 cw(c140,-7.311) 138.55,-7.65 ; 142.05,-7.65 cw(c143.5,-7.989) 144.95,-7.65 cw(c143.5,-7.311) 142.05,-7.65 ; 145.55,-7.65 cw(c147,-7.989) 148.45,-7.65 cw(c147,-7.311) 145.55,-7.65 ; 149.05,-7.65 cw(c150.5,-7.989) 151.95,-7.65 cw(c150.5,-7.311) 149.05,-7.65 ; 152.55,-7.65 cw(c154,-7.989) 155.45,-7.65 cw(c154,-7.311) 152.55,-7.65
  text "'.Designator'" at 72.253,-3.49 h1
F.CrtYd:
  lines w0.254: -3.7,-10.15 -3.7,2.85 156.3,2.85 156.3,-10.15 -3.7,-10.15